# Altium schematic symbol library IAUC28N08S5L230ATMA1.SchLib: 1 symbol
Pins are listed as number, name and electrical type; pins without a type are passive.

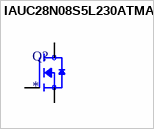
[diagram p0: symbol IAUC28N08S5L230ATMA1]

## IAUC28N08S5L230ATMA1
designator Q?
N-Channel 80V 28A (Tc) 38W (Tc) Surface Mount PG-TDSON-8-33; MF: Infineon Technologies; MP: IAUC28N08S5L230ATMA1; Digi-Key_Part_Number: 448-IAUC28N08S5L230ATMA1CT-ND; Package: PowerTDFN-8 Infineon Technologies; Purchase-URL: https://pricing.snapeda.com/search/part/IAUC28N08S5L230ATMA1/?ref=eda; Check_prices: https://www.snapeda.com/parts/IAUC28N08S5L230ATMA1/Infineon%20Technologies/view-part/4703660/?ref=eda; Value: *; SnapEDA_Link: https://www.snapeda.com/parts/IAUC28N08S5L230ATMA1/Infineon%20Technologies/view-part/4703660/?ref=snap
footprint TRANS_IAUC28N08S5L230ATMA1
pins: 1 S, 4 G, 5 D